# Altium footprint library SMD_footprints.PcbLib: 32 footprints (part 2 of 2)
Each footprint in its own frame and in the unit in brackets; x right, y up, seen from the top. Pads: shape width x height; smd on the part's side, far side on the other; paste and mask are expansions set on the pad; w line width, h text height; cw(c..) or ccw(c..) is an arc to the next point about the centre after c.
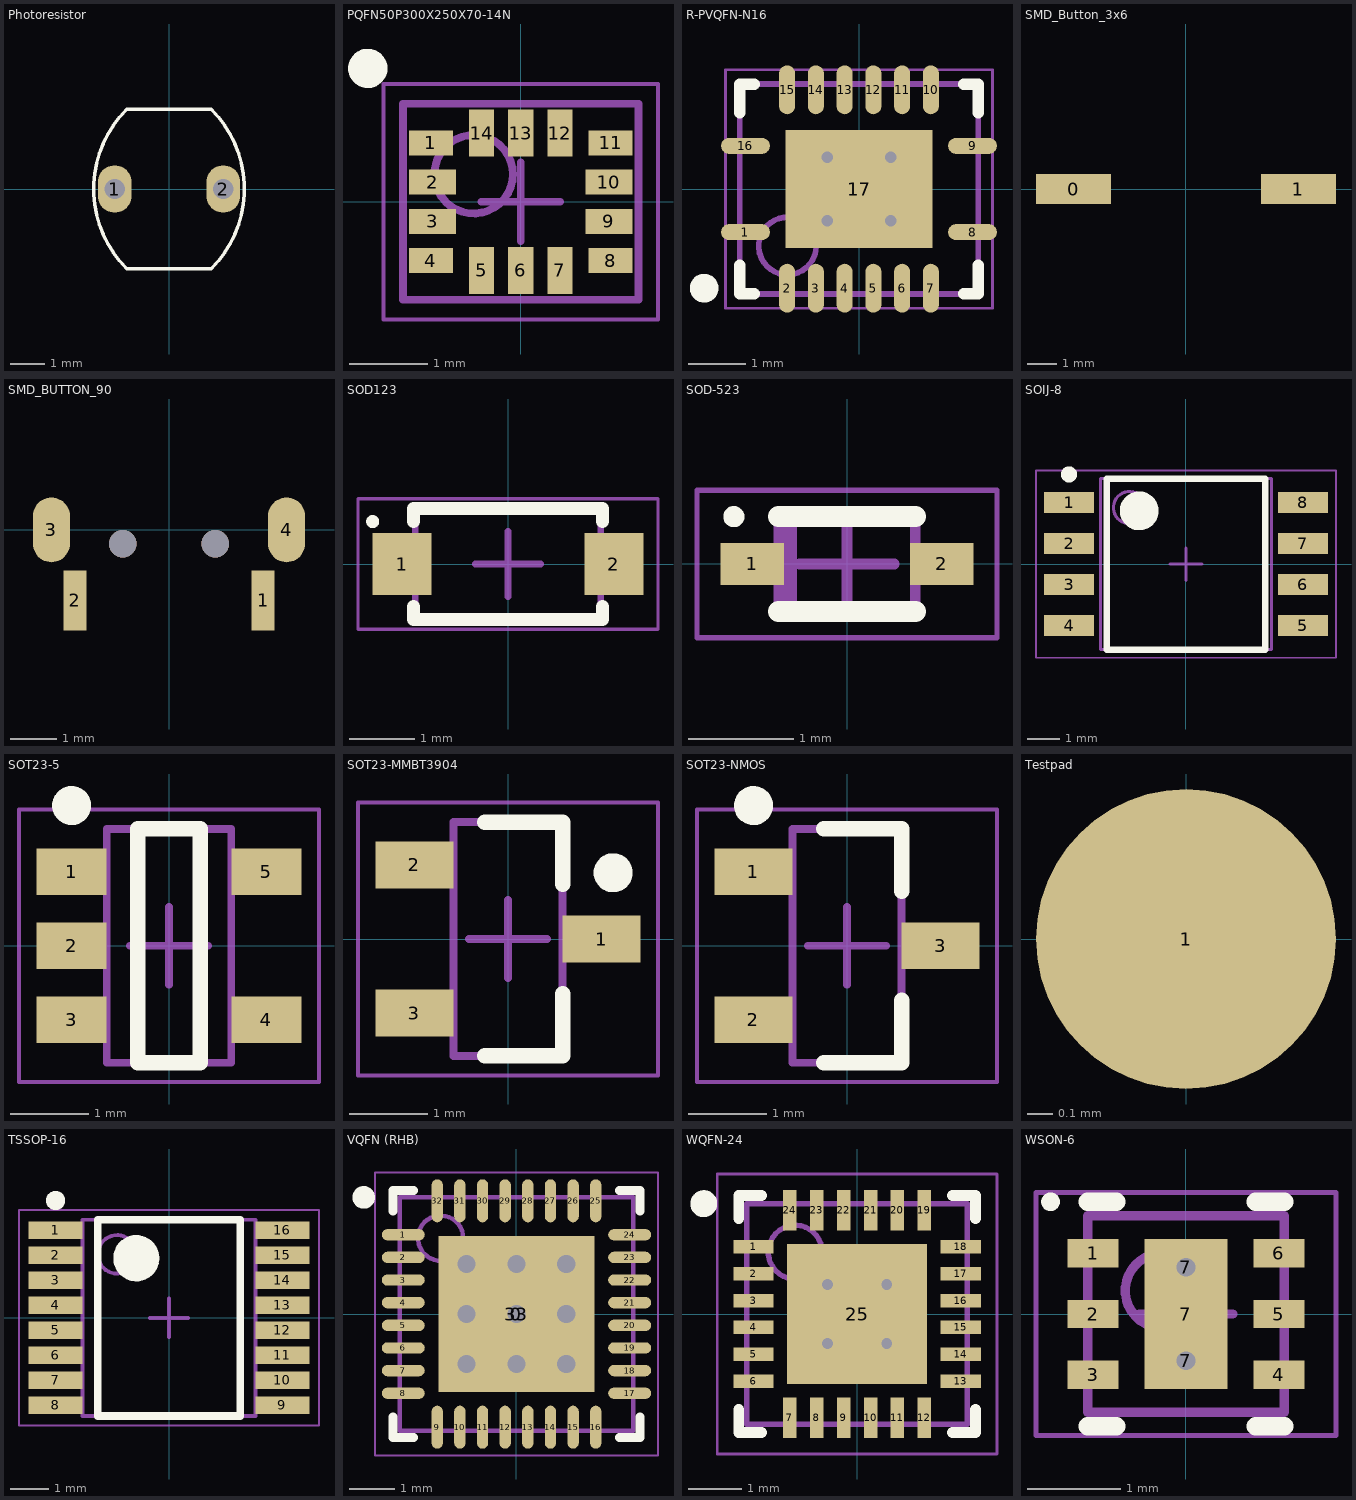
[diagram p1: the footprints below, top view; thin cyan lines are the x and y axes]

## Photoresistor [mm]
pads (2):
  oval 1x1.4 hole 0.6: 1(-1.6,0) 2(1.6,0)
Top Overlay:
  lines w0.1: -1.25,-2.35 cw(c1.1,0) -1.25,2.35 1.25,2.35 cw(c-1.1,0) 1.25,-2.35 -1.25,-2.35

## PQFN50P300X250X70-14N [mm] "PQFN, 14-Leads, Body 3,00x2,50mm, Pitch 0,50mm, IPC Medium Density"
height 0.7
pads (14):
  rect 0.56x0.32 smd mask+0.04: 1(-1.145,0.75) 4(-1.145,-0.75) 8(1.145,-0.75) 11(1.145,0.75)
  rect 0.6x0.32 smd mask+0.04: 2(-1.125,0.25) 3(-1.125,-0.25) 9(1.125,-0.25) 10(1.125,0.25)
  rect 0.32x0.6 smd mask+0.04: 5(-0.5,-0.875) 6(0,-0.875) 7(0.5,-0.875) 12(0.5,0.875) 13(0,0.875) 14(-0.5,0.875)
Top Overlay:
  circle w0.25: c-1.95,1.7 r0.125
Mechanical 13:
  circle w0.1: c-0.6,0.35 r0.5
  lines w0.1: -1.5,-1.25 1.5,-1.25 1.5,1.25 -1.5,1.25 -1.5,-1.25
Mechanical 15:
  lines w0.05: -1.75,-1.5 1.75,-1.5 1.75,1.5 -1.75,1.5 -1.75,-1.5
  lines w0.1: -0.5,0 0.5,0 ; 0,-0.5 0,0.5
3D body "PQFN50P300X250X70-14N.step": height 0.7, standoff 0, extent -1.5,-1.25 1.5,1.25

## R-PVQFN-N16 [mm] "PQFN, 16-Leads, Body 4,00x3,50mm, Pitch 0,50mm/1,50mm, Thermal Pad 2,55x2,05mm, IPC Medium Density"
height 1
pads (17):
  oval 0.85x0.28 smd: 1(-1.975,-0.75) 8(1.975,-0.75) 9(1.975,0.75) 16(-1.975,0.75)
  oval 0.28x0.85 smd: 2(-1.25,-1.725) 3(-0.75,-1.725) 4(-0.25,-1.725) 5(0.25,-1.725) 6(0.75,-1.725) 7(1.25,-1.725) 10(1.25,1.725) 11(0.75,1.725) 12(0.25,1.725) 13(-0.25,1.725) 14(-0.75,1.725) 15(-1.25,1.725)
  rect 2.55x2.05 smd: 17(0,0)
via 0.55,-0.55 diameter 0.5 hole 0.2
via -0.55,-0.55 diameter 0.5 hole 0.2
via 0.55,0.55 diameter 0.5 hole 0.2
via -0.55,0.55 diameter 0.5 hole 0.2
Top Overlay:
  circle w0.25: c-2.692,-1.725 r0.125
  lines w0.2: -2.075,-1.325 -2.075,-1.825 -1.825,-1.825 ; -2.075,1.325 -2.075,1.825 -1.825,1.825 ; 1.825,-1.825 2.075,-1.825 2.075,-1.325 ; 1.825,1.825 2.075,1.825 2.075,1.325
Assembly Top:
  circle w0.1: c-1.245,-0.991 r0.5
  lines w0.1: -2.075,-1.825 2.075,-1.825 2.075,1.825 -2.075,1.825 -2.075,-1.825
Courtyard Top:
  lines w0.05: -2.325,-2.075 2.325,-2.075 2.325,2.075 -2.325,2.075 -2.325,-2.075
  lines w0.1: -0.5,0 0.5,0 ; 0,-0.5 0,0.5
3D body: height 1, standoff 0.08, extent -2.075,-1.825 2.075,1.825
3D body: height 1.1, standoff 0, extent -1.592,-1.34 -0.895,-0.641

## SMD_Button_3x6 [mil] "Surface-mount 3x6mm button"
pads (2):
  rect 100x40 smd: 0(-150,0) 1(150,0)
3D body: height 100, standoff 0, extent -70,-20 70,20
3D body: height 80, standoff 0, extent -120,-80 120,80

## SMD_BUTTON_90 [mm] "90 degree smd button"
pads (4):
  rect 0.5x1.3 smd: 1(2.032,-1.524) 2(-2.032,-1.524)
  rrect100% 0.8x1.4 smd: 3(-2.54,0) 4(2.54,0)
via -1,-0.3 diameter 0.6 hole 0.6
via 1,-0.3 diameter 0.6 hole 0.6
3D body "SMD_Button_90deg.stp": height 1.9, standoff -0.5, extent -2.5,-1.7 2.5,1.7

## SOD123 [mm] "SODFL, 2-Leads, Body 1,55x3,70mm, IPC Medium Density"
height 1.45
pads (2):
  rect 0.9x0.95 smd: 1(-1.625,0) 2(1.625,0)
Top Overlay:
  circle w0.1: c-2.075,0.65 r0.05
  lines w0.2: -1.45,-0.65 -1.45,-0.85 1.45,-0.85 1.45,-0.65 ; -1.45,0.65 -1.45,0.85 1.45,0.85 1.45,0.65
Assembly Top:
  lines w0.1: -1.425,-0.85 -1.425,0.85 1.425,0.85 1.425,-0.85 -1.425,-0.85
Courtyard Top:
  lines w0.05: -2.3,-1 -2.3,1 2.3,1 2.3,-1 -2.3,-1
  lines w0.1: -0.5,0 0.5,0 ; 0,-0.5 0,0.5
3D body "SOD123.step": height 1.45, standoff 0, extent -1.85,-0.85 1.85,0.85

## SOD-523 [mm] "Molded Diode, 2-Leads, Body 1,20x0,80mm, IPC Medium Density"
height 0.7
pads (2):
  rect 0.6x0.4 smd: 1(-0.9,0) 2(0.9,0)
Top Overlay:
  circle w0.1: c-1.075,0.45 r0.05
  lines w0.2: -0.65,-0.45 0.65,-0.45 ; -0.65,0.45 0.65,0.45
Assembly Top:
  rectangle: -0.65,-0.45 -0.475,0.45
  lines w0.1: -0.65,-0.45 -0.65,0.45 0.65,0.45 0.65,-0.45 -0.65,-0.45
Courtyard Top:
  lines w0.05: -1.425,-0.7 -1.425,0.7 1.425,0.7 1.425,-0.7 -1.425,-0.7
  lines w0.1: -0.45,0 0.45,0 ; 0,-0.45 0,0.45
3D body "DIOM1208X07N.step": height 0.7, standoff 0, extent -0.87,-0.45 0.87,0.45

## SOIJ-8 [mm] "SOIC, 8-Leads, Body 5,26x5,25mm, Pitch 1,27mm, IPC Medium Density"
height 2.03
pads (8):
  rect 1.55x0.65 smd: 1(-3.625,1.905) 2(-3.625,0.635) 3(-3.625,-0.635) 4(-3.625,-1.905) 5(3.625,-1.905) 6(3.625,-0.635) 7(3.625,0.635) 8(3.625,1.905)
Top Overlay:
  circle w0.25: c-3.625,2.78 r0.125
  circle w0.6: c-1.45,1.65 r0.3
  lines w0.2: -2.45,-2.65 -2.45,2.65 2.45,2.65 2.45,-2.65 -2.45,-2.65
Assembly Top:
  circle w0.1: c-1.75,1.75 r0.5
  lines w0.1: -2.65,-2.65 -2.65,2.65 2.65,2.65 2.65,-2.65 -2.65,-2.65
Courtyard Top:
  lines w0.05: -4.65,-2.9 -4.65,2.9 4.65,2.9 4.65,-2.9 -4.65,-2.9
  lines w0.1: -0.5,0 0.5,0 ; 0,-0.5 0,0.5
3D body "SOIJ-8.step": height 2.03, standoff 0, extent -3.97,-2.65 3.97,2.65

## SOT23-5 [mm] "SOT23, 5-Leads, Body 2,90x2,45mm, Pitch 0,95mm, IPC Medium Density"
height 1
pads (5):
  rect 0.9x0.6 smd: 1(-1.25,0.95) 2(-1.25,0) 3(-1.25,-0.95) 4(1.25,-0.95) 5(1.25,0.95)
Top Overlay:
  circle w0.25: c-1.25,1.8 r0.125
  lines w0.2: -0.4,-1.5 0.4,-1.5 0.4,1.5 -0.4,1.5 -0.4,-1.5
Assembly Top:
  lines w0.1: -0.8,-1.5 -0.8,1.5 0.8,1.5 0.8,-1.5 -0.8,-1.5
Courtyard Top:
  lines w0.05: -1.925,-1.75 -1.925,1.75 1.925,1.75 1.925,-1.75 -1.925,-1.75
  lines w0.1: -0.5,0 0.5,0 ; 0,-0.5 0,0.5
3D body "SOT23-5.step": height 1, standoff 0.01, extent -1.293,-1.5 1.293,1.5

## SOT23-MMBT3904 [mm] "SOT23, 3-Leads, Body 2,90x2,45mm, Pitch 0,95mm, IPC Medium Density"
height 1.1
pads (3):
  rect 1x0.6 smd: 1(1.2,0) 2(-1.2,0.95) 3(-1.2,-0.95)
Top Overlay:
  circle w0.25: c1.35,0.85 r0.125
  lines w0.2: -0.3,-1.5 0.7,-1.5 0.7,-0.7 ; -0.3,1.5 0.7,1.5 0.7,0.7
Assembly Top:
  lines w0.1: -0.7,-1.5 -0.7,1.5 0.7,1.5 0.7,-1.5 -0.7,-1.5
Courtyard Top:
  lines w0.05: -1.925,-1.75 -1.925,1.75 1.925,1.75 1.925,-1.75 -1.925,-1.75
  lines w0.1: -0.5,0 0.5,0 ; 0,-0.5 0,0.5
3D body "SOT23-MMBT3904.step": height 1.1, standoff 0, extent -1.3,-1.5 1.3,1.5

## SOT23-NMOS [mm] "SOT23, 3-Leads, Body 2,90x2,45mm, Pitch 0,95mm, IPC Medium Density"
height 1.1
pads (3):
  rect 1x0.6 smd: 1(-1.2,0.95) 2(-1.2,-0.95) 3(1.2,0)
Top Overlay:
  circle w0.25: c-1.2,1.8 r0.125
  lines w0.2: -0.3,-1.5 0.7,-1.5 0.7,-0.7 ; -0.3,1.5 0.7,1.5 0.7,0.7
Assembly Top:
  lines w0.1: -0.7,-1.5 -0.7,1.5 0.7,1.5 0.7,-1.5 -0.7,-1.5
Courtyard Top:
  lines w0.05: -1.925,-1.75 -1.925,1.75 1.925,1.75 1.925,-1.75 -1.925,-1.75
  lines w0.1: -0.5,0 0.5,0 ; 0,-0.5 0,0.5
3D body "SOT23-NMOS.step": height 1.1, standoff 0, extent -1.3,-1.5 1.3,1.5

## Testpad [mm]
pads (1):
  round 1.2 smd: 1(0,0)

## TSSOP-16 [mm] "TSOP, 16-Leads, Body 5,00x4,40mm, Pitch 0,65mm, IPC Medium Density"
height 1.1
pads (16):
  rect 1.4x0.45 smd: 1(-2.95,2.275) 2(-2.95,1.625) 3(-2.95,0.975) 4(-2.95,0.325) 5(-2.95,-0.325) 6(-2.95,-0.975) 7(-2.95,-1.625) 8(-2.95,-2.275) 9(2.95,-2.275) 10(2.95,-1.625) 11(2.95,-0.975) 12(2.95,-0.325) 13(2.95,0.325) 14(2.95,0.975) 15(2.95,1.625) 16(2.95,2.275)
Top Overlay:
  circle w0.25: c-2.95,3.05 r0.125
  circle w0.6: c-0.85,1.55 r0.3
  lines w0.2: -1.85,-2.55 -1.85,2.55 1.85,2.55 1.85,-2.55 -1.85,-2.55
Assembly Top:
  circle w0.1: c-1.35,1.65 r0.5
  lines w0.1: -2.25,-2.55 -2.25,2.55 2.25,2.55 2.25,-2.55 -2.25,-2.55
Courtyard Top:
  lines w0.05: -3.9,-2.8 -3.9,2.8 3.9,2.8 3.9,-2.8 -3.9,-2.8
  lines w0.1: -0.5,0 0.5,0 ; 0,-0.5 0,0.5
3D body "TSSOP16.step": height 1.1, standoff 0, extent -3.2,-2.55 3.2,2.55

## VQFN (RHB) [mm] "Texas Instruments connected MCU RHB package, QFN, 32-Leads, Body 5,00x5,00mm, Pitch 0,50mm, Thermal Pad 3,45x3,45mm, IPC Medium Density"
height 1
pads (34):
  rrect50% 1x1 smd: 0(0,0)
  oval 0.95x0.25 smd mask+0.06: 1(-2.5,1.75) 2(-2.5,1.25) 3(-2.5,0.75) 4(-2.5,0.25) 5(-2.5,-0.25) 6(-2.5,-0.75) 7(-2.5,-1.25) 8(-2.5,-1.75) 17(2.5,-1.75) 18(2.5,-1.25) 19(2.5,-0.75) 20(2.5,-0.25) 21(2.5,0.25) 22(2.5,0.75) 23(2.5,1.25) 24(2.5,1.75)
  oval 0.25x0.95 smd mask+0.06: 9(-1.75,-2.5) 10(-1.25,-2.5) 11(-0.75,-2.5) 12(-0.25,-2.5) 13(0.25,-2.5) 14(0.75,-2.5) 15(1.25,-2.5) 16(1.75,-2.5) 25(1.75,2.5) 26(1.25,2.5) 27(0.75,2.5) 28(0.25,2.5) 29(-0.25,2.5) 30(-0.75,2.5) 31(-1.25,2.5) 32(-1.75,2.5)
  rect 3.45x3.45 smd mask+0.06: 33(0,0)
via 1.1,-1.1 diameter 0.8 hole 0.4
via 0,-1.1 diameter 0.8 hole 0.4
via -1.1,-1.1 diameter 0.8 hole 0.4
via 1.1,0 diameter 0.8 hole 0.4
via 0,0 diameter 0.8 hole 0.4
via -1.1,0 diameter 0.8 hole 0.4
via 1.1,1.1 diameter 0.8 hole 0.4
via 0,1.1 diameter 0.8 hole 0.4
via -1.1,1.1 diameter 0.8 hole 0.4
Top Overlay:
  circle w0.25: c-3.375,2.575 r0.125
  lines w0.2: -2.725,-2.275 -2.725,-2.725 -2.275,-2.725 ; -2.725,2.275 -2.725,2.725 -2.275,2.725 ; 2.275,-2.725 2.725,-2.725 2.725,-2.275 ; 2.275,2.725 2.725,2.725 2.725,2.275
Mechanical 13:
  circle w0.1: c-1.675,1.675 r0.5
  lines w0.1: -2.575,-2.575 2.575,-2.575 2.575,2.575 -2.575,2.575 -2.575,-2.575
Mechanical 15:
  lines w0.05: -3.125,-3.125 3.125,-3.125 3.125,3.125 -3.125,3.125 -3.125,-3.125
  lines w0.1: -0.5,0 0.5,0 ; 0,-0.5 0,0.5
3D body: height 1, standoff 0.05, extent -2.575,-2.575 2.575,2.575

## WQFN-24 [mm] "QFN, 24-Leads, Body 4,00x4,00mm, Pitch 0,50mm, Thermal Pad 2,60x2,60mm, IPC Medium Density"
height 0.8
pads (25):
  rect 0.75x0.25 smd: 1(-1.925,1.25) 2(-1.925,0.75) 3(-1.925,0.25) 4(-1.925,-0.25) 5(-1.925,-0.75) 6(-1.925,-1.25) 13(1.925,-1.25) 14(1.925,-0.75) 15(1.925,-0.25) 16(1.925,0.25) 17(1.925,0.75) 18(1.925,1.25)
  rect 0.25x0.75 smd: 7(-1.25,-1.925) 8(-0.75,-1.925) 9(-0.25,-1.925) 10(0.25,-1.925) 11(0.75,-1.925) 12(1.25,-1.925) 19(1.25,1.925) 20(0.75,1.925) 21(0.25,1.925) 22(-0.25,1.925) 23(-0.75,1.925) 24(-1.25,1.925)
  rect 2.6x2.6 smd: 25(0,0)
via -0.55,0.55 diameter 0.5 hole 0.2
via 0.55,0.55 diameter 0.5 hole 0.2
via -0.55,-0.55 diameter 0.5 hole 0.2
via 0.55,-0.55 diameter 0.5 hole 0.2
Top Overlay:
  circle w0.25: c-2.85,2.05 r0.125
  lines w0.2: -2.2,-1.775 -2.2,-2.2 -1.775,-2.2 ; -2.2,1.775 -2.2,2.2 -1.775,2.2 ; 1.775,-2.2 2.2,-2.2 2.2,-1.775 ; 1.775,2.2 2.2,2.2 2.2,1.775
Assembly Top:
  circle w0.1: c-1.15,1.15 r0.5
  lines w0.1: -2.05,-2.05 -2.05,2.05 2.05,2.05 2.05,-2.05 -2.05,-2.05
Courtyard Top:
  lines w0.05: -2.6,-2.6 -2.6,2.6 2.6,2.6 2.6,-2.6 -2.6,-2.6
  lines w0.1: -0.5,0 0.5,0 ; 0,-0.5 0,0.5
3D body "WQFN-24.step": height 0.8, standoff 0, extent -2.1,-2.1 2.1,2.1

## WSON-6 [mm] "SON, 6-Leads, Body 2,00x2,00mm, Pitch 0,65mm, Thermal Pad 1,60x0,89mm, IPC Medium Density"
height 0.8
pads (9):
  rect 0.55x0.3 smd: 1(-0.995,0.65) 2(-0.995,0) 3(-0.995,-0.65) 4(0.995,-0.65) 5(0.995,0) 6(0.995,0.65)
  round 0.45 hole 0.2: 7(0,-0.5) 7(0,0.5)
  rect 0.89x1.6 smd: 7(0,0)
Top Overlay:
  circle w0.1: c-1.45,1.2 r0.05
  lines w0.2: -1.05,-1.2 -0.745,-1.2 ; -1.05,1.2 -0.745,1.2 ; 0.745,-1.2 1.05,-1.2 ; 0.745,1.2 1.05,1.2
Assembly Top:
  circle w0.1: c-0.25,0.25 r0.4
  lines w0.1: -1.05,-1.05 -1.05,1.05 1.05,1.05 1.05,-1.05 -1.05,-1.05
Courtyard Top:
  lines w0.05: -1.605,-1.3 -1.605,1.3 1.605,1.3 1.605,-1.3 -1.605,-1.3
  lines w0.1: -0.5,0 0.5,0 ; 0,-0.5 0,0.5
3D body "WSON_DRV0006A.step": height 0.8, standoff 0, extent -1.13,-1.05 1.13,1.05